# EAGLE library part CONN6 (library freskin)
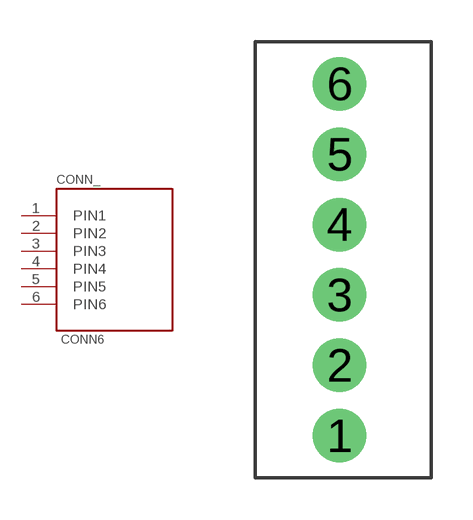
[diagram p3: symbol with the pads of CONN6_2.54MM_SCREW; footprint CONN6_2.54MM_SCREW]

Designator prefix CONN_

## CONN6PITCH_2.54MM_SCREW  [CONN6_2.54MM_SCREW]
1  PIN1
2  PIN2
3  PIN3
4  PIN4
5  PIN5
6  PIN6

## Footprint CONN6_2.54MM_SCREW (pad centres in mm)
drill 1.1 pad 1.93: 1 0,-6.604; 2 0,-4.064; 3 0,-1.524; 4 0,1.016; 5 0,3.556; 6 0,6.096